# Altium footprint library 613 0xx 243 121.PcbLib: 23 footprints (part 2 of 2)
Each footprint in its own frame and in the unit in brackets; x right, y up, seen from the top. Pads: shape width x height; smd on the part's side, far side on the other; paste and mask are expansions set on the pad; w line width, h text height; cw(c..) or ccw(c..) is an arc to the next point about the centre after c.
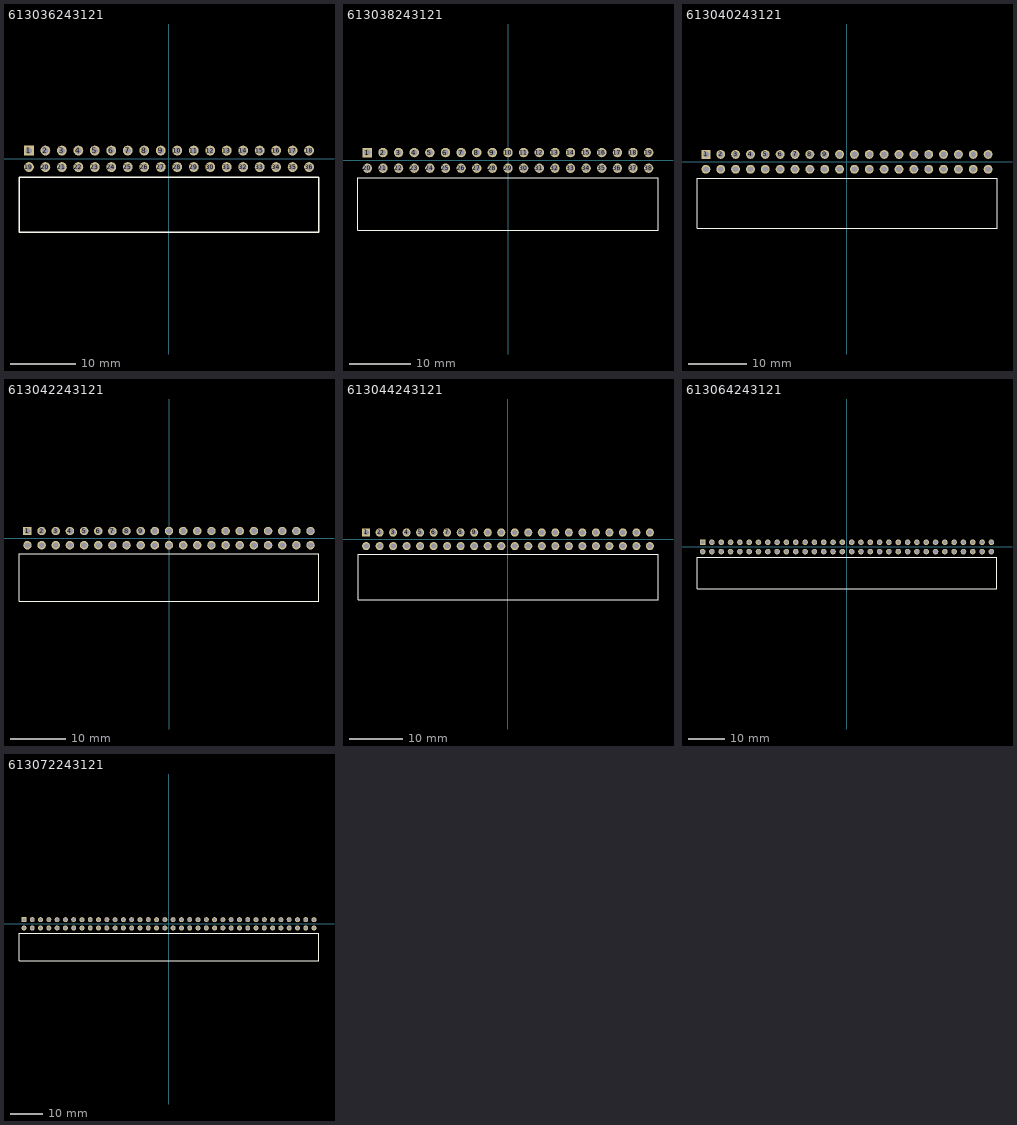
[diagram p1: the footprints below, top view; thin cyan lines are the x and y axes]

## 613036243121 [mm] "36p 2 rows Right angle"
height 5.08
pads (36):
  rect 1.52x1.52 hole 1.02: 1(-21.59,1.27)
  round 1.52 hole 1.02: 2(-19.05,1.27) 3(-16.51,1.27) 4(-13.97,1.27) 5(-11.43,1.27) 6(-8.89,1.27) 7(-6.35,1.27) 8(-3.81,1.27) 9(-1.27,1.27) 10(1.27,1.27) 11(3.81,1.27) 12(6.35,1.27) 13(8.89,1.27) 14(11.43,1.27) 15(13.97,1.27) 16(16.51,1.27) 17(19.05,1.27) 18(21.59,1.27) 19(-21.59,-1.27) 20(-19.05,-1.27) 21(-16.51,-1.27) 22(-13.97,-1.27) 23(-11.43,-1.27) 24(-8.89,-1.27) 25(-6.35,-1.27) 26(-3.81,-1.27) 27(-1.27,-1.27) 28(1.27,-1.27) 29(3.81,-1.27) 30(6.35,-1.27) 31(8.89,-1.27) 32(11.43,-1.27) 33(13.97,-1.27) 34(16.51,-1.27) 35(19.05,-1.27) 36(21.59,-1.27)
Top Overlay:
  lines w0.2: -23.11,-11.33 -23.11,-2.83 23.11,-2.83 23.11,-11.33 -23.11,-11.33
3D body "613036243121.stp": height 5.05, standoff -3.25, extent -23.11,-11.33 23.11,1.27

## 613038243121 [mm] "38p 2 rows Right angle"
height 5.08
pads (38):
  rect 1.52x1.52 hole 1.02: 1(-22.86,1.27)
  round 1.52 hole 1.02: 2(-20.32,1.27) 3(-17.78,1.27) 4(-15.24,1.27) 5(-12.7,1.27) 6(-10.16,1.27) 7(-7.62,1.27) 8(-5.08,1.27) 9(-2.54,1.27) 10(0,1.27) 11(2.54,1.27) 12(5.08,1.27) 13(7.62,1.27) 14(10.16,1.27) 15(12.7,1.27) 16(15.24,1.27) 17(17.78,1.27) 18(20.32,1.27) 19(22.86,1.27) 20(-22.86,-1.27) 21(-20.32,-1.27) 22(-17.78,-1.27) 23(-15.24,-1.27) 24(-12.7,-1.27) 25(-10.16,-1.27) 26(-7.62,-1.27) 27(-5.08,-1.27) 28(-2.54,-1.27) 29(0,-1.27) 30(2.54,-1.27) 31(5.08,-1.27) 32(7.62,-1.27) 33(10.16,-1.27) 34(12.7,-1.27) 35(15.24,-1.27) 36(17.78,-1.27) 37(20.32,-1.27) 38(22.86,-1.27)
Top Overlay:
  lines w0.2: -24.38,-11.33 -24.38,-2.83 24.38,-2.83 24.38,-11.33 -24.38,-11.33
3D body "613038243121.stp": height 5.05, standoff -3.25, extent -24.38,-11.33 24.38,1.27

## 613040243121 [mm] "40p 2 rows Right angle"
height 5.08
pads (40):
  rect 1.52x1.52 hole 1.02: 1(-24.13,1.27)
  round 1.52 hole 1.02: 2(-21.59,1.27) 3(-19.05,1.27) 4(-16.51,1.27) 5(-13.97,1.27) 6(-11.43,1.27) 7(-8.89,1.27) 8(-6.35,1.27) 9(-3.81,1.27) 10(-1.27,1.27) 11(1.27,1.27) 12(3.81,1.27) 13(6.35,1.27) 14(8.89,1.27) 15(11.43,1.27) 16(13.97,1.27) 17(16.51,1.27) 18(19.05,1.27) 19(21.59,1.27) 20(24.13,1.27) 21(-24.13,-1.27) 22(-21.59,-1.27) 23(-19.05,-1.27) 24(-16.51,-1.27) 25(-13.97,-1.27) 26(-11.43,-1.27) 27(-8.89,-1.27) 28(-6.35,-1.27) 29(-3.81,-1.27) 30(-1.27,-1.27) 31(1.27,-1.27) 32(3.81,-1.27) 33(6.35,-1.27) 34(8.89,-1.27) 35(11.43,-1.27) 36(13.97,-1.27) 37(16.51,-1.27) 38(19.05,-1.27) 39(21.59,-1.27) 40(24.13,-1.27)
Top Overlay:
  lines w0.2: -25.65,-11.33 -25.65,-2.83 25.65,-2.83 25.65,-11.33 -25.65,-11.33
3D body "613040243121.stp": height 5.05, standoff -3.25, extent -25.65,-11.33 25.65,1.27

## 613042243121 [mm] "42p 2 rows Right angle"
height 5.08
pads (42):
  rect 1.52x1.52 hole 1.02: 1(-25.4,1.27)
  round 1.52 hole 1.02: 2(-22.86,1.27) 3(-20.32,1.27) 4(-17.78,1.27) 5(-15.24,1.27) 6(-12.7,1.27) 7(-10.16,1.27) 8(-7.62,1.27) 9(-5.08,1.27) 10(-2.54,1.27) 11(0,1.27) 12(2.54,1.27) 13(5.08,1.27) 14(7.62,1.27) 15(10.16,1.27) 16(12.7,1.27) 17(15.24,1.27) 18(17.78,1.27) 19(20.32,1.27) 20(22.86,1.27) 21(25.4,1.27) 22(-25.4,-1.27) 23(-22.86,-1.27) 24(-20.32,-1.27) 25(-17.78,-1.27) 26(-15.24,-1.27) 27(-12.7,-1.27) 28(-10.16,-1.27) 29(-7.62,-1.27) 30(-5.08,-1.27) 31(-2.54,-1.27) 32(0,-1.27) 33(2.54,-1.27) 34(5.08,-1.27) 35(7.62,-1.27) 36(10.16,-1.27) 37(12.7,-1.27) 38(15.24,-1.27) 39(17.78,-1.27) 40(20.32,-1.27) 41(22.86,-1.27) 42(25.4,-1.27)
Top Overlay:
  lines w0.2: -26.92,-11.33 26.92,-11.33 26.92,-2.83 -26.92,-2.83 -26.92,-11.33
3D body "613042243121.stp": height 5.05, standoff -3.25, extent -26.92,-11.33 26.92,1.27

## 613044243121 [mm] "44p 2 rows Right angle"
height 5.08
pads (44):
  rect 1.52x1.52 hole 1.02: 1(-26.67,1.27)
  round 1.52 hole 1.02: 2(-24.13,1.27) 3(-21.59,1.27) 4(-19.05,1.27) 5(-16.51,1.27) 6(-13.97,1.27) 7(-11.43,1.27) 8(-8.89,1.27) 9(-6.35,1.27) 10(-3.81,1.27) 11(-1.27,1.27) 12(1.27,1.27) 13(3.81,1.27) 14(6.35,1.27) 15(8.89,1.27) 16(11.43,1.27) 17(13.97,1.27) 18(16.51,1.27) 19(19.05,1.27) 20(21.59,1.27) 21(24.13,1.27) 22(26.67,1.27) 23(-26.67,-1.27) 24(-24.13,-1.27) 25(-21.59,-1.27) 26(-19.05,-1.27) 27(-16.51,-1.27) 28(-13.97,-1.27) 29(-11.43,-1.27) 30(-8.89,-1.27) 31(-6.35,-1.27) 32(-3.81,-1.27) 33(-1.27,-1.27) 34(1.27,-1.27) 35(3.81,-1.27) 36(6.35,-1.27) 37(8.89,-1.27) 38(11.43,-1.27) 39(13.97,-1.27) 40(16.51,-1.27) 41(19.05,-1.27) 42(21.59,-1.27) 43(24.13,-1.27) 44(26.67,-1.27)
Top Overlay:
  lines w0.2: -28.19,-11.33 -28.19,-2.83 28.19,-2.83 28.19,-11.33 -28.19,-11.33
3D body "613044243121.stp": height 5.05, standoff -3.25, extent -28.19,-11.33 28.19,1.27

## 613064243121 [mm] "64p 2 rows Right angle"
height 5.08
pads (64):
  rect 1.52x1.52 hole 1.02: 1(-39.37,1.27)
  round 1.52 hole 1.02: 2(-36.83,1.27) 3(-34.29,1.27) 4(-31.75,1.27) 5(-29.21,1.27) 6(-26.67,1.27) 7(-24.13,1.27) 8(-21.59,1.27) 9(-19.05,1.27) 10(-16.51,1.27) 11(-13.97,1.27) 12(-11.43,1.27) 13(-8.89,1.27) 14(-6.35,1.27) 15(-3.81,1.27) 16(-1.27,1.27) 17(1.27,1.27) 18(3.81,1.27) 19(6.35,1.27) 20(8.89,1.27) 21(11.43,1.27) 22(13.97,1.27) 23(16.51,1.27) 24(19.05,1.27) 25(21.59,1.27) 26(24.13,1.27) 27(26.67,1.27) 28(29.21,1.27) 29(31.75,1.27) 30(34.29,1.27) 31(36.83,1.27) 32(39.37,1.27) 33(-39.37,-1.27) 34(-36.83,-1.27) 35(-34.29,-1.27) 36(-31.75,-1.27) 37(-29.21,-1.27) 38(-26.67,-1.27) 39(-24.13,-1.27) 40(-21.59,-1.27) 41(-19.05,-1.27) 42(-16.51,-1.27) 43(-13.97,-1.27) 44(-11.43,-1.27) 45(-8.89,-1.27) 46(-6.35,-1.27) 47(-3.81,-1.27) 48(-1.27,-1.27) 49(1.27,-1.27) 50(3.81,-1.27) 51(6.35,-1.27) 52(8.89,-1.27) 53(11.43,-1.27) 54(13.97,-1.27) 55(16.51,-1.27) 56(19.05,-1.27) 57(21.59,-1.27) 58(24.13,-1.27) 59(26.67,-1.27) 60(29.21,-1.27) 61(31.75,-1.27) 62(34.29,-1.27) 63(36.83,-1.27) 64(39.37,-1.27)
Top Overlay:
  lines w0.2: -40.89,-11.33 40.89,-11.33 40.89,-2.83 -40.89,-2.83 -40.89,-11.33
3D body "613064243121.stp": height 5.05, standoff -3.25, extent -40.89,-11.33 40.89,1.27

## 613072243121 [mm] "72p 2 rows Right angle"
height 5.08
pads (72):
  rect 1.52x1.52 hole 1.02: 1(-44.45,1.27)
  round 1.52 hole 1.02: 2(-41.91,1.27) 3(-39.37,1.27) 4(-36.83,1.27) 5(-34.29,1.27) 6(-31.75,1.27) 7(-29.21,1.27) 8(-26.67,1.27) 9(-24.13,1.27) 10(-21.59,1.27) 11(-19.05,1.27) 12(-16.51,1.27) 13(-13.97,1.27) 14(-11.43,1.27) 15(-8.89,1.27) 16(-6.35,1.27) 17(-3.81,1.27) 18(-1.27,1.27) 19(1.27,1.27) 20(3.81,1.27) 21(6.35,1.27) 22(8.89,1.27) 23(11.43,1.27) 24(13.97,1.27) 25(16.51,1.27) 26(19.05,1.27) 27(21.59,1.27) 28(24.13,1.27) 29(26.67,1.27) 30(29.21,1.27) 31(31.75,1.27) 32(34.29,1.27) 33(36.83,1.27) 34(39.37,1.27) 35(41.91,1.27) 36(44.45,1.27) 37(-44.45,-1.27) 38(-41.91,-1.27) 39(-39.37,-1.27) 40(-36.83,-1.27) 41(-34.29,-1.27) 42(-31.75,-1.27) 43(-29.21,-1.27) 44(-26.67,-1.27) 45(-24.13,-1.27) 46(-21.59,-1.27) 47(-19.05,-1.27) 48(-16.51,-1.27) 49(-13.97,-1.27) 50(-11.43,-1.27) 51(-8.89,-1.27) 52(-6.35,-1.27) 53(-3.81,-1.27) 54(-1.27,-1.27) 55(1.27,-1.27) 56(3.81,-1.27) 57(6.35,-1.27) 58(8.89,-1.27) 59(11.43,-1.27) 60(13.97,-1.27) 61(16.51,-1.27) 62(19.05,-1.27) 63(21.59,-1.27) 64(24.13,-1.27) 65(26.67,-1.27) 66(29.21,-1.27) 67(31.75,-1.27) 68(34.29,-1.27) 69(36.83,-1.27) 70(39.37,-1.27) 71(41.91,-1.27) 72(44.45,-1.27)
Top Overlay:
  lines w0.2: -45.97,-11.33 45.97,-11.33 45.97,-2.83 -45.97,-2.83 -45.97,-11.33
3D body "613072243121.stp": height 5.05, standoff -3.25, extent -45.97,-11.33 45.97,1.27